# Altium schematic symbol library INA180A1IDBVR.Schlib: 1 symbol
Pins are listed as number, name and electrical type; pins without a type are passive.

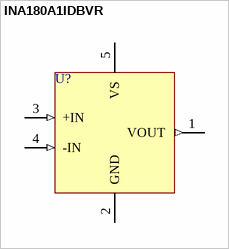
[diagram p0: symbol INA180A1IDBVR]

## INA180A1IDBVR
designator U?
Low- and High-Side Voltage Output, Current-Sense Amplifiers
pins: 1 VOUT (out), 2 GND (power), 3 +IN (in), 4 -IN (in), 5 VS (power)